# EAGLE library part DCM4623TD2J13D0T70 (library LM555-Jessica-Ly)
400W 300V to 12V step-down DC-DC converter Datasheet <https://www.mouser.com/datasheet/2/685/DCM4623xD2J13D0y7z_ds-1144763.pdf>
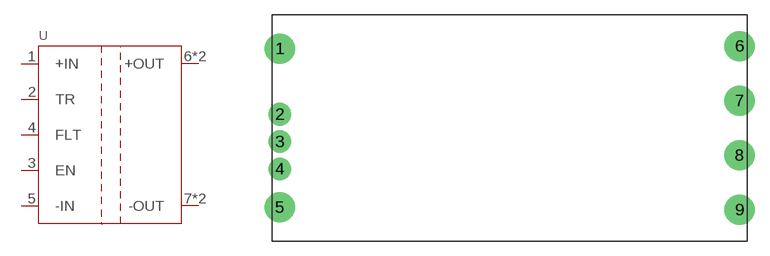
[diagram p49: symbol with the pads of DCM4623; footprint DCM4623]

Designator prefix U

## DCM4623TD2J13D0T70 (DKPN: 1102-DCM4623TD2J13D0T70-ND; MANUFACTURER: Vicor; MOPN: 492-DCM4623D2J13D0T7; MPN: DCM4623TD2J13D0T70)  [DCM4623]
1  +IN  pwr
2  TR  out
3  EN  in
4  FLT  out
5  -IN  pwr
6  +OUT  pwr
7  -OUT  pwr
8  +OUT  pwr
9  -OUT  pwr

## Footprint DCM4623 (pad centres in mm)
DCM4623 Datasheet <https://www.mouser.com/datasheet/2/685/DCM4623xD2J13D0y7z_ds-1144763.pdf>
drill 2.03 pad 2.79: 1 -23.19,8; 5 -23.19,-8; 6 23.19,8.25; 7 23.19,2.75; 8 23.19,-2.75; 9 23.19,-8.25
drill 1.52 pad 2.02: 2 -23.19,1.38; 3 -23.19,-1.38; 4 -23.19,-4.13